# Altium integrated library Linear Technology Power Management LED Driver ICs.IntLib: 490 symbols (part 35 of 48)
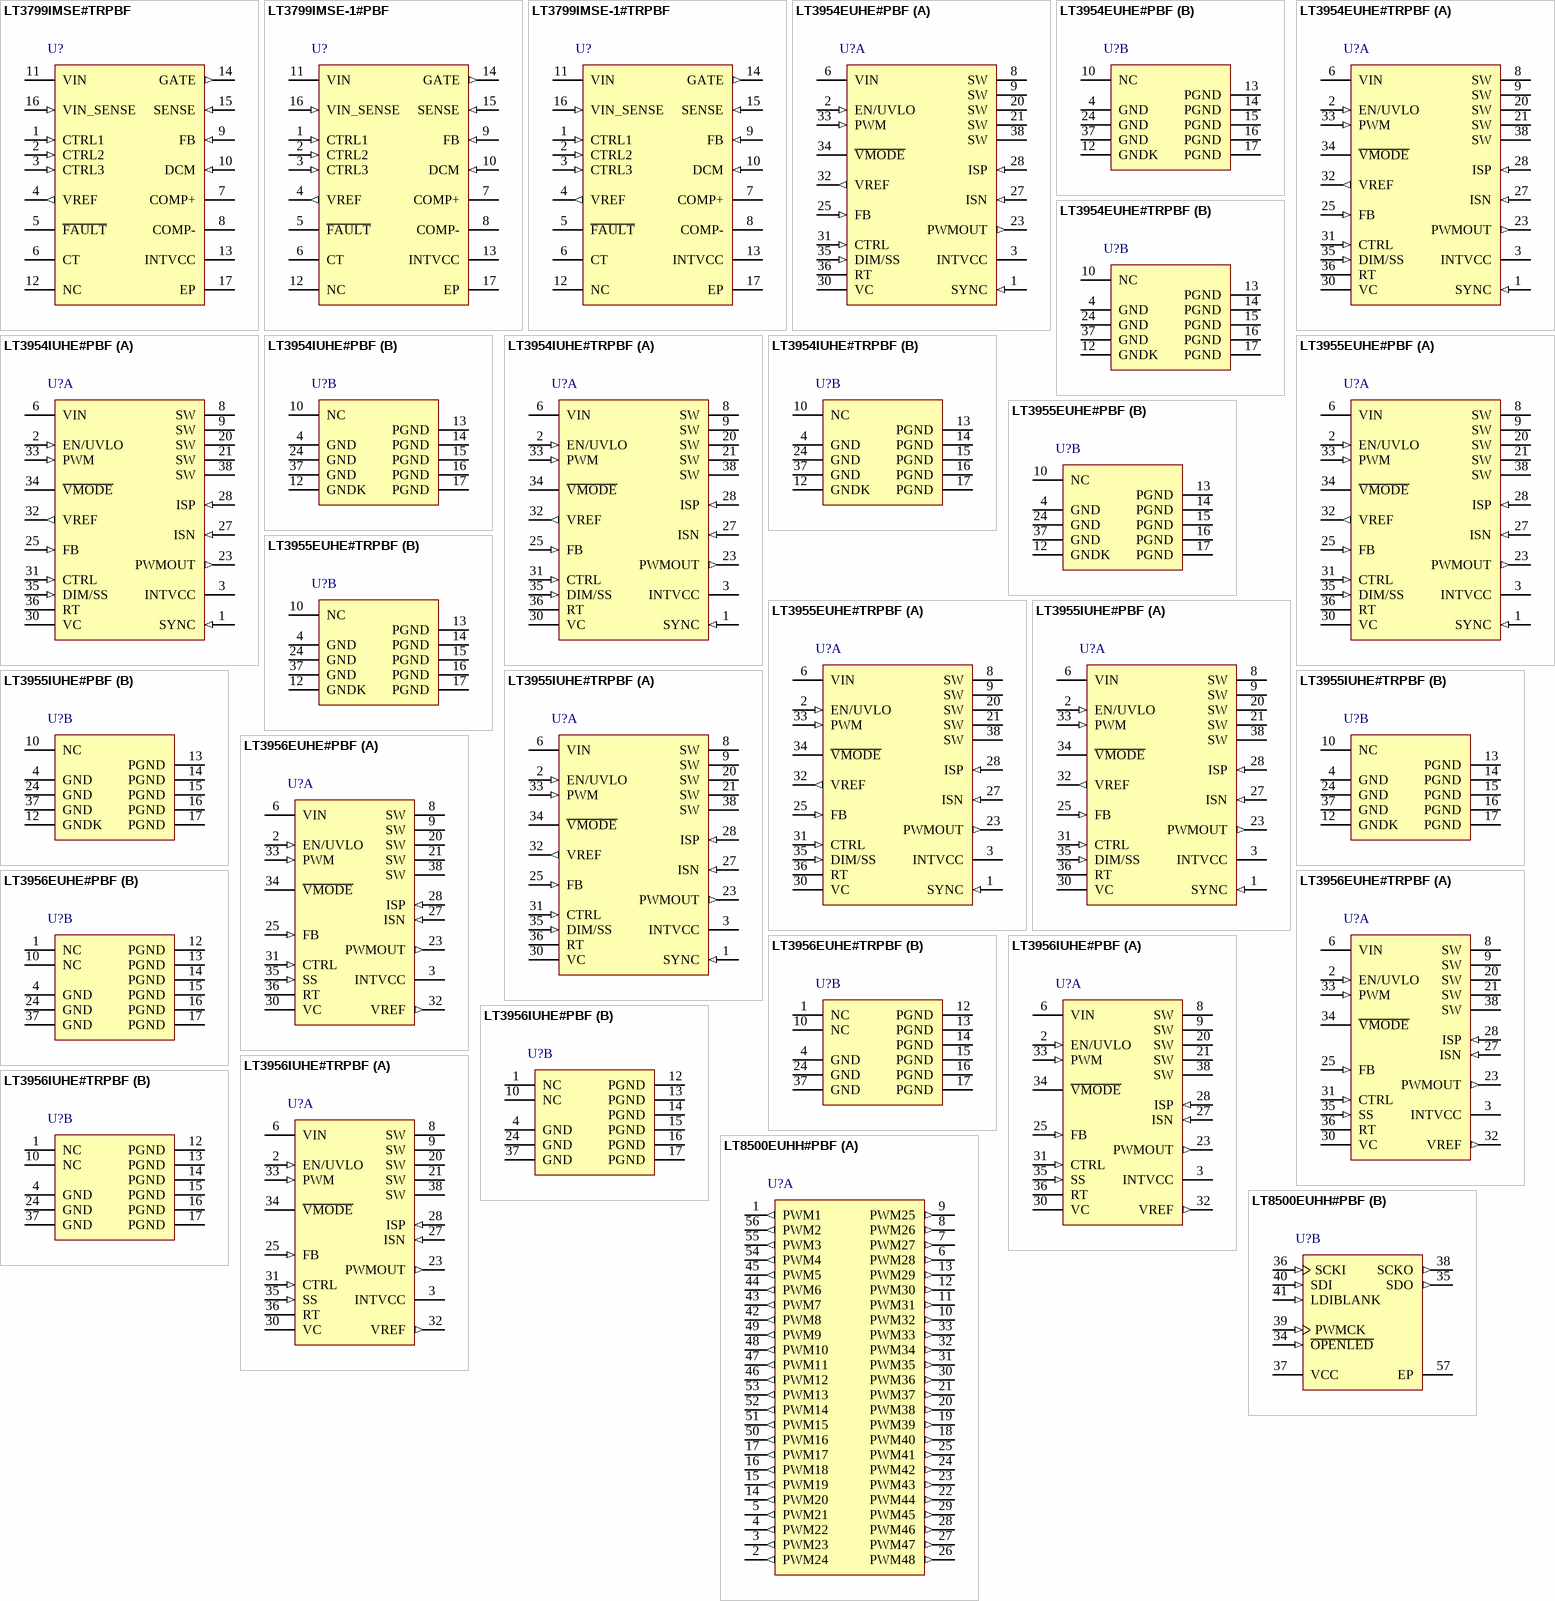
[diagram p54: symbols LT3799IMSE#TRPBF to LT8500EUHH#PBF]

## LT3956IUHE#TRPBF
designator U?
Constant-Current, Constant-Voltage Converter, 4.5 to 80 V Vin, 80 V Vout MAX, 28-pin QFN (UHE-36-V-UHE28MA), -40 to 125 degC, Pb-Free, Tape and Reel; Manufacturer: Linear Technology; PartNumber: LT3956IUHE#TRPBF; Topology: Buck, Boost, Buck-Boost, Sepic, Flyback, LED Driver; Vin Min(V): 4.5; PackageVersion: Rev. D, 02/2012; PackageReference: UHE-36; PackageDescription: 28-Pin Plastic QFN, Body 5 x 6 mm, Pitch 0.5 mm; Supplier 1: Digi-Key; Supplier Part Number 1: LT3956IUHE#TRPBF-ND; Packing: Tape and Reel; RoHS: TRUE; Mounting Technology: Surface Mount; ComponentLink1Description: Manufacturer URL; ComponentLink1URL: http://www.linear.com/; ComponentLink2Description: Datasheet; ComponentLink2URL: http://cds.linear.com/docs/en/datasheet/3956f.pdf; ComponentLink3Description: Package Specification; ComponentLink3URL: http://cds.linear.com/docs/en/packaging/QFN_28_05-08-1836.pdf
footprint LT-UHE-36-V-UHE28MA_V (QFN, 28-Leads, Body 6x5mm, Pitch 0.5mm)
part A pins: 2 EN/UVLO (in) "Shutdown and Undervoltage Detect Pin. An accurate 1.22V falling threshold with externally programmable hysteresis detects when power is OK to enable switching. Rising hysteresis is generated by the external resistor divider (See Datasheet)", 3 INTVCC (power) "Regulated supply for internal loads, GATE driver and PWMOUT driver. Supplied from VIN and regulates to 7.15V (typical). INTVCC must be bypassed with a 4.7uF capacitor placed close to the pin. Connect INTVCC directly to VIN (See Datasheet)", 6 VIN (power) "Input Supply Pin. Must be locally bypassed with a 0.22uF (or larger) capacitor to PGND placed close to the IC.", 8 SW (power) "The drain of the switching N-channel MOSFET and must be connected to the external inductor.", 9 SW (power) "The drain of the switching N-channel MOSFET and must be connected to the external inductor.", 20 SW (power) "The drain of the switching N-channel MOSFET and must be connected to the external inductor.", 21 SW (power) "The drain of the switching N-channel MOSFET and must be connected to the external inductor.", 23 PWMOUT (out) "Buffered Version of the PWM Signal. This pin is used to drive the LED load disconnect N-channel MOSFET or level shift. This pin also serves in a protection function for the FB overvoltage condition-will toggle if the FB (See Datasheet)", 25 FB (in) "Voltage Loop Feedback Pin. FB is intended for constant-voltage regulation or for LED protection/open LED detection. The internal transconductance amplifier with output VC will regulate FB to 1.25V (nominal) through the DC/DC (See Datasheet)", 27 ISN (in) "Connection point for the negative terminal of the current feedback resistor. If ISN is greater than 2.9V, the LED current can be programmed by ILED = 250mV/RLED when VCTRL > 1.2V or ILED = (VCTRL -100mV)/(4 ? RLED) i(See Datasheet)", 28 ISP (in) "Connection point for the positive terminal of the current feedback resistor. Input bias current for this pin depends on CTRL pin voltage, as shown in the Typical Performance Characteristics. ISP is an input to the (See Datasheet)", 30 VC "Transconductance Error Amplifier Output Pin. This pin is used to stabilize the voltage loop with an RC network. This pin is high impedance when PWM is low, a feature that stores the demand current state variable for the next (See Datasheet)", 31 CTRL (in) "Current Sense Threshold Adjustment Pin. Regula-ting threshold V(ISP - ISN) is 0.25 ? VCTRL plus an offset for 0V < VCTRL < 1V. For VCTRL > 1.2V the current sense threshold is constant at the full-scale value of 250mV. Fo(See Datasheet)", 32 VREF (out) "Voltage Reference Output Pin (typically 2V). This pin drives a resistor divider for the CTRL pin, either for analog dimming or for temperature limit/compensation of LED load. Can supply up to 100uA.", 33 PWM (in) "A signal low turns off switcher, idles oscillator and disconnects VC pin from all internal loads. PWMOUT pin follows PWM pin. PWM has an internal pull-down resistor. If not used, connect to INTVCC.", 34 ~{VMODE} (oc) "An open-collector pull-down on V\M\O\D\E\ asserts if the FB input is greater than the FB regulation threshold minus 50mV (typical). To function, the pin requires an external pull-up resistor. When the PWM input is low and (See Datasheet)", 35 SS (in) "Soft-Start Pin. This pin modulates oscillator frequency and compensation pin voltage (VC) clamp. The soft-start interval is set with an external capacitor. The pin has a 10uA (typical) pull-up current source to an internal 2.(See Datasheet)", 36 RT "Switching Frequency Adjustment Pin. Set the frequency using a resistor to GND (for resistor values, see the Typical Performance curve or Table 1). Do not leave the RT pin open.", 38 SW (power) "The exposed pad, Pin 38, is the drain of the switching N-channel MOSFET and must be connected to the external inductor."
part B pins: 1 NC "No Internal Connection. These pins may be left floating or connected to an adjacent pin.", 4 GND (power) "Ground. The exposed pad, Pin 37, is ground and must be soldered directly to the ground plane.", 10 NC "No Internal Connection. These pins may be left floating or connected to an adjacent pin.", 12 PGND (power) "Source terminal of switch and the GND input to the switch current comparator. Kelvin connect to the GND plane close to the IC using Pin 12.", 13 PGND (power) "Source terminal of switch and the GND input to the switch current comparator. Kelvin connect to the GND plane close to the IC using Pin 12. Pins 13 should be connected externally to the PGND terminals of components in the (See Datasheet)", 14 PGND (power) "Source terminal of switch and the GND input to the switch current comparator. Kelvin connect to the GND plane close to the IC using Pin 12. Pins 14 should be connected externally to the PGND terminals of components in the (See Datasheet)", 15 PGND (power) "Source terminal of switch and the GND input to the switch current comparator. Kelvin connect to the GND plane close to the IC using Pin 12. Pins 15 should be connected externally to the PGND terminals of components in the (See Datasheet)", 16 PGND (power) "Source terminal of switch and the GND input to the switch current comparator. Kelvin connect to the GND plane close to the IC using Pin 12. Pins 16 should be connected externally to the PGND terminals of components in the (See Datasheet)", 17 PGND (power) "Source terminal of switch and the GND input to the switch current comparator. Kelvin connect to the GND plane close to the IC using Pin 12. Pins 17 should be connected externally to the PGND terminals of components in the (See Datasheet)", 24 GND (power) "Ground.", 37 GND (power) "Ground. The exposed pad, Pin 37, is ground and must be soldered directly to the ground plane."

## LT8500EUHH#PBF
designator U?
48-Channel LED PWM Generator with 12-Bit Resolution and 50 MHz Cascadable Serial Interface, 3 to 5.5 V Vin, 56-pin QFN (UHH-56), -40 to 125 degC, Pb-Free; Manufacturer: Linear Technology; PartNumber: LT8500EUHH#PBF; Vin Min(V): 3; PackageVersion: Rev. A, 06/2010; PackageReference: UHH-56; PackageDescription: 56-Pin Plastic QFN, Body 5 x 9 mm, Pitch 0.4 mm; Supplier 1: Digi-Key; Supplier Part Number 1: LT8500EUHH#PBF-ND; Supplier 2: Newark; Supplier Part Number 2: 59T5973; RoHS: TRUE; Topology: PWM Generator; Mounting Technology: Surface Mount; ComponentLink1Description: Manufacturer URL; ComponentLink1URL: http://www.linear.com/; ComponentLink2Description: Datasheet; ComponentLink2URL: http://cds.linear.com/docs/en/datasheet/8500f.pdf; ComponentLink3Description: Package Specification; ComponentLink3URL: http://cds.linear.com/docs/en/packaging/QFN_56_05-08-1727.pdf
footprint LT-UHH-56_N (QFN, 56-Leads, Body 9.1x5.1mm, Pitch 0.4mm, Thermal Pad 7.13x3.45mm, IPC Medium Density)
footprint LT-UHH-56_L (QFN, 56-Leads, Body 9.1x5.1mm, Pitch 0.4mm, Thermal Pad 7.13x3.45mm, IPC High Density)
footprint LT-UHH-56_M (QFN, 56-Leads, Body 9.1x5.1mm, Pitch 0.4mm, Thermal Pad 7.13x3.45mm, IPC Low Density)
part A pins: 1 PWM1 (out) "Pulse Width Modulated (PWM) Output Pins. Pulse width is determined by comparing the value in the PWMRSYNC latches to an internal PWMCK counter. Outputs are high when the value in the PWMCK counter is less than the value in (See Datasheet)", 2 PWM24 (out) "Pulse Width Modulated (PWM) Output Pins. Pulse width is determined by comparing the value in the PWMRSYNC latches to an internal PWMCK counter. Outputs are high when the value in the PWMCK counter is less than the value in (See Datasheet)", 3 PWM23 (out) "Pulse Width Modulated (PWM) Output Pins. Pulse width is determined by comparing the value in the PWMRSYNC latches to an internal PWMCK counter. Outputs are high when the value in the PWMCK counter is less than the value in (See Datasheet)", 4 PWM22 (out) "Pulse Width Modulated (PWM) Output Pins. Pulse width is determined by comparing the value in the PWMRSYNC latches to an internal PWMCK counter. Outputs are high when the value in the PWMCK counter is less than the value in (See Datasheet)", 5 PWM21 (out) "Pulse Width Modulated (PWM) Output Pins. Pulse width is determined by comparing the value in the PWMRSYNC latches to an internal PWMCK counter. Outputs are high when the value in the PWMCK counter is less than the value in (See Datasheet)", 6 PWM28 (out) "Pulse Width Modulated (PWM) Output Pins. Pulse width is determined by comparing the value in the PWMRSYNC latches to an internal PWMCK counter. Outputs are high when the value in the PWMCK counter is less than the value in (See Datasheet)", 7 PWM27 (out) "Pulse Width Modulated (PWM) Output Pins. Pulse width is determined by comparing the value in the PWMRSYNC latches to an internal PWMCK counter. Outputs are high when the value in the PWMCK counter is less than the value in (See Datasheet)", 8 PWM26 (out) "Pulse Width Modulated (PWM) Output Pins. Pulse width is determined by comparing the value in the PWMRSYNC latches to an internal PWMCK counter. Outputs are high when the value in the PWMCK counter is less than the value in (See Datasheet)", 9 PWM25 (out) "Pulse Width Modulated (PWM) Output Pins. Pulse width is determined by comparing the value in the PWMRSYNC latches to an internal PWMCK counter. Outputs are high when the value in the PWMCK counter is less than the value in (See Datasheet)", 10 PWM32 (out) "Pulse Width Modulated (PWM) Output Pins. Pulse width is determined by comparing the value in the PWMRSYNC latches to an internal PWMCK counter. Outputs are high when the value in the PWMCK counter is less than the value in (See Datasheet)", 11 PWM31 (out) "Pulse Width Modulated (PWM) Output Pins. Pulse width is determined by comparing the value in the PWMRSYNC latches to an internal PWMCK counter. Outputs are high when the value in the PWMCK counter is less than the value in (See Datasheet)", 12 PWM30 (out) "Pulse Width Modulated (PWM) Output Pins. Pulse width is determined by comparing the value in the PWMRSYNC latches to an internal PWMCK counter. Outputs are high when the value in the PWMCK counter is less than the value in (See Datasheet)", 13 PWM29 (out) "Pulse Width Modulated (PWM) Output Pins. Pulse width is determined by comparing the value in the PWMRSYNC latches to an internal PWMCK counter. Outputs are high when the value in the PWMCK counter is less than the value in (See Datasheet)", 14 PWM20 (out) "Pulse Width Modulated (PWM) Output Pins. Pulse width is determined by comparing the value in the PWMRSYNC latches to an internal PWMCK counter. Outputs are high when the value in the PWMCK counter is less than the value in (See Datasheet)", 15 PWM19 (out) "Pulse Width Modulated (PWM) Output Pins. Pulse width is determined by comparing the value in the PWMRSYNC latches to an internal PWMCK counter. Outputs are high when the value in the PWMCK counter is less than the value in (See Datasheet)", 16 PWM18 (out) "Pulse Width Modulated (PWM) Output Pins. Pulse width is determined by comparing the value in the PWMRSYNC latches to an internal PWMCK counter. Outputs are high when the value in the PWMCK counter is less than the value in (See Datasheet)", 17 PWM17 (out) "Pulse Width Modulated (PWM) Output Pins. Pulse width is determined by comparing the value in the PWMRSYNC latches to an internal PWMCK counter. Outputs are high when the value in the PWMCK counter is less than the value in (See Datasheet)", 18 PWM40 (out) "Pulse Width Modulated (PWM) Output Pins. Pulse width is determined by comparing the value in the PWMRSYNC latches to an internal PWMCK counter. Outputs are high when the value in the PWMCK counter is less than the value in (See Datasheet)", 19 PWM39 (out) "Pulse Width Modulated (PWM) Output Pins. Pulse width is determined by comparing the value in the PWMRSYNC latches to an internal PWMCK counter. Outputs are high when the value in the PWMCK counter is less than the value in (See Datasheet)", 20 PWM38 (out) "Pulse Width Modulated (PWM) Output Pins. Pulse width is determined by comparing the value in the PWMRSYNC latches to an internal PWMCK counter. Outputs are high when the value in the PWMCK counter is less than the value in (See Datasheet)", 21 PWM37 (out) "Pulse Width Modulated (PWM) Output Pins. Pulse width is determined by comparing the value in the PWMRSYNC latches to an internal PWMCK counter. Outputs are high when the value in the PWMCK counter is less than the value in (See Datasheet)", 22 PWM44 (out) "Pulse Width Modulated (PWM) Output Pins. Pulse width is determined by comparing the value in the PWMRSYNC latches to an internal PWMCK counter. Outputs are high when the value in the PWMCK counter is less than the value in (See Datasheet)", 23 PWM43 (out) "Pulse Width Modulated (PWM) Output Pins. Pulse width is determined by comparing the value in the PWMRSYNC latches to an internal PWMCK counter. Outputs are high when the value in the PWMCK counter is less than the value in (See Datasheet)", 24 PWM42 (out) "Pulse Width Modulated (PWM) Output Pins. Pulse width is determined by comparing the value in the PWMRSYNC latches to an internal PWMCK counter. Outputs are high when the value in the PWMCK counter is less than the value in (See Datasheet)", 25 PWM41 (out) "Pulse Width Modulated (PWM) Output Pins. Pulse width is determined by comparing the value in the PWMRSYNC latches to an internal PWMCK counter. Outputs are high when the value in the PWMCK counter is less than the value in (See Datasheet)", 26 PWM48 (out) "Pulse Width Modulated (PWM) Output Pins. Pulse width is determined by comparing the value in the PWMRSYNC latches to an internal PWMCK counter. Outputs are high when the value in the PWMCK counter is less than the value in (See Datasheet)", 27 PWM47 (out) "Pulse Width Modulated (PWM) Output Pins. Pulse width is determined by comparing the value in the PWMRSYNC latches to an internal PWMCK counter. Outputs are high when the value in the PWMCK counter is less than the value in (See Datasheet)", 28 PWM46 (out) "Pulse Width Modulated (PWM) Output Pins. Pulse width is determined by comparing the value in the PWMRSYNC latches to an internal PWMCK counter. Outputs are high when the value in the PWMCK counter is less than the value in (See Datasheet)", 29 PWM45 (out) "Pulse Width Modulated (PWM) Output Pins. Pulse width is determined by comparing the value in the PWMRSYNC latches to an internal PWMCK counter. Outputs are high when the value in the PWMCK counter is less than the value in (See Datasheet)", 30 PWM36 (out) "Pulse Width Modulated (PWM) Output Pins. Pulse width is determined by comparing the value in the PWMRSYNC latches to an internal PWMCK counter. Outputs are high when the value in the PWMCK counter is less than the value in (See Datasheet)", 31 PWM35 (out) "Pulse Width Modulated (PWM) Output Pins. Pulse width is determined by comparing the value in the PWMRSYNC latches to an internal PWMCK counter. Outputs are high when the value in the PWMCK counter is less than the value in (See Datasheet)", 32 PWM34 (out) "Pulse Width Modulated (PWM) Output Pins. Pulse width is determined by comparing the value in the PWMRSYNC latches to an internal PWMCK counter. Outputs are high when the value in the PWMCK counter is less than the value in (See Datasheet)", 33 PWM33 (out) "Pulse Width Modulated (PWM) Output Pins. Pulse width is determined by comparing the value in the PWMRSYNC latches to an internal PWMCK counter. Outputs are high when the value in the PWMCK counter is less than the value in (See Datasheet)", 42 PWM8 (out) "Pulse Width Modulated (PWM) Output Pins. Pulse width is determined by comparing the value in the PWMRSYNC latches to an internal PWMCK counter. Outputs are high when the value in the PWMCK counter is less than the value in (See Datasheet)", 43 PWM7 (out) "Pulse Width Modulated (PWM) Output Pins. Pulse width is determined by comparing the value in the PWMRSYNC latches to an internal PWMCK counter. Outputs are high when the value in the PWMCK counter is less than the value in (See Datasheet)", 44 PWM6 (out) "Pulse Width Modulated (PWM) Output Pins. Pulse width is determined by comparing the value in the PWMRSYNC latches to an internal PWMCK counter. Outputs are high when the value in the PWMCK counter is less than the value in (See Datasheet)", 45 PWM5 (out) "Pulse Width Modulated (PWM) Output Pins. Pulse width is determined by comparing the value in the PWMRSYNC latches to an internal PWMCK counter. Outputs are high when the value in the PWMCK counter is less than the value in (See Datasheet)", 46 PWM12 (out) "Pulse Width Modulated (PWM) Output Pins. Pulse width is determined by comparing the value in the PWMRSYNC latches to an internal PWMCK counter. Outputs are high when the value in the PWMCK counter is less than the value in (See Datasheet)", 47 PWM11 (out) "Pulse Width Modulated (PWM) Output Pins. Pulse width is determined by comparing the value in the PWMRSYNC latches to an internal PWMCK counter. Outputs are high when the value in the PWMCK counter is less than the value in (See Datasheet)", 48 PWM10 (out) "Pulse Width Modulated (PWM) Output Pins. Pulse width is determined by comparing the value in the PWMRSYNC latches to an internal PWMCK counter. Outputs are high when the value in the PWMCK counter is less than the value in (See Datasheet)", 49 PWM9 (out) "Pulse Width Modulated (PWM) Output Pins. Pulse width is determined by comparing the value in the PWMRSYNC latches to an internal PWMCK counter. Outputs are high when the value in the PWMCK counter is less than the value in (See Datasheet)", 50 PWM16 (out) "Pulse Width Modulated (PWM) Output Pins. Pulse width is determined by comparing the value in the PWMRSYNC latches to an internal PWMCK counter. Outputs are high when the value in the PWMCK counter is less than the value in (See Datasheet)", 51 PWM15 (out) "Pulse Width Modulated (PWM) Output Pins. Pulse width is determined by comparing the value in the PWMRSYNC latches to an internal PWMCK counter. Outputs are high when the value in the PWMCK counter is less than the value in (See Datasheet)", 52 PWM14 (out) "Pulse Width Modulated (PWM) Output Pins. Pulse width is determined by comparing the value in the PWMRSYNC latches to an internal PWMCK counter. Outputs are high when the value in the PWMCK counter is less than the value in (See Datasheet)", 53 PWM13 (out) "Pulse Width Modulated (PWM) Output Pins. Pulse width is determined by comparing the value in the PWMRSYNC latches to an internal PWMCK counter. Outputs are high when the value in the PWMCK counter is less than the value in (See Datasheet)", 54 PWM4 (out) "Pulse Width Modulated (PWM) Output Pins. Pulse width is determined by comparing the value in the PWMRSYNC latches to an internal PWMCK counter. Outputs are high when the value in the PWMCK counter is less than the value in (See Datasheet)", 55 PWM3 (out) "Pulse Width Modulated (PWM) Output Pins. Pulse width is determined by comparing the value in the PWMRSYNC latches to an internal PWMCK counter. Outputs are high when the value in the PWMCK counter is less than the value in (See Datasheet)", 56 PWM2 (out) "Pulse Width Modulated (PWM) Output Pins. Pulse width is determined by comparing the value in the PWMRSYNC latches to an internal PWMCK counter. Outputs are high when the value in the PWMCK counter is less than the value in (See Datasheet)"
part B pins: 34 ~{OPENLED} (in) "Not Open LED Input Pin. This input passes diagnostic information to the host via the status frame. When used with LT3595A LED drivers, it connects to the wired-OR (open collector) O\P\E\N\L\E\D\ outputs which indicate an (See Datasheet)", 35 SDO (out) "Serial Data Output Pin. This pin is the output of the shift register (SR), and cascades data to downstream chips or returns data to the host.", 36 SCKI (in) "Serial Clock Input Pin. This clock pin provides timing for the serial interface and the calculation of PWM values in the correction multiplier. This clock is independent of PWMCK.", 37 VCC (power) "Supply Pin. 3.0V to 5.5V. Must be locally bypassed with a capacitor to ground.", 38 SCKO (out) "Serial Clock Output Pin. Buffered pass through of SCKI. This pin cascades the clock to the next chip or to the host.", 39 PWMCK (in) "PWM Clock Input Pin. This pin provides PWM timing for the outputs. Each PWM signal is generated by counting the pulses on this clock from zero to the calculated value in the PWM synchronization register (PWMRSYNC). This (See Datasheet)", 40 SDI (in) "Serial Data Input Pin. This pin provides serial interface data to issue commands and set up the individual PWM channels.", 41 LDIBLANK (in) "Latch Data In/Blank Input Pin. This is a dual function pin. LDI Function: The internal LDI signal is directly connected to the LDIBLANK pin. A logic high on the pin always asserts the LDI function. The rising edge of (See Datasheet)", 57 EP (power) "This is the ground reference for the chip."

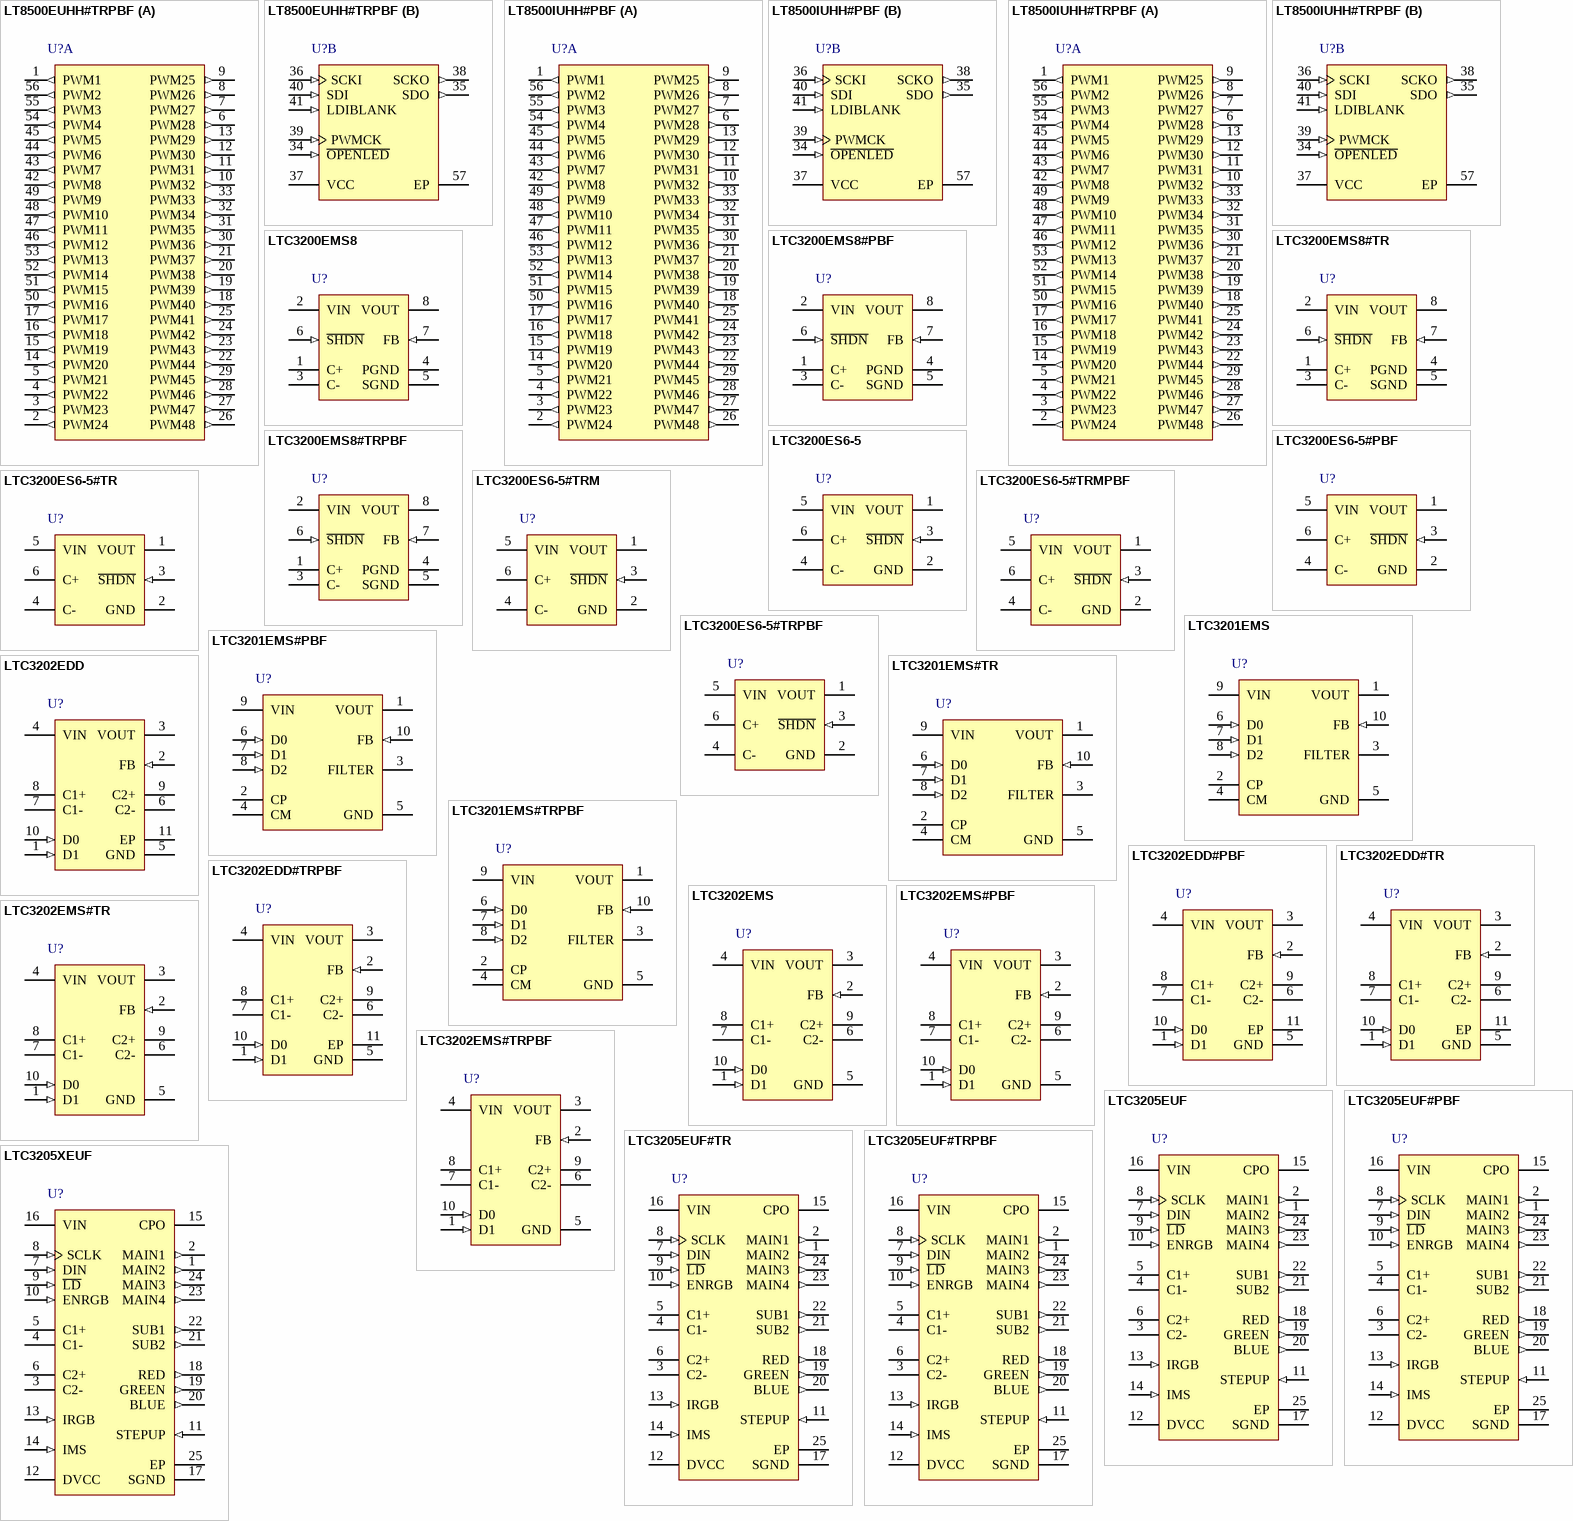
[diagram p15: symbols LT8500EUHH#TRPBF to LTC3205XEUF]

## LT8500EUHH#TRPBF
designator U?
48-Channel LED PWM Generator with 12-Bit Resolution and 50 MHz Cascadable Serial Interface, 3 to 5.5 V Vin, 56-pin QFN (UHH-56), -40 to 125 degC, Pb-Free, Tape and Reel; Manufacturer: Linear Technology; PartNumber: LT8500EUHH#TRPBF; Vin Min(V): 3; PackageVersion: Rev. A, 06/2010; PackageReference: UHH-56; PackageDescription: 56-Pin Plastic QFN, Body 5 x 9 mm, Pitch 0.4 mm; Supplier 1: Digi-Key; Supplier Part Number 1: LT8500EUHH#TRPBF-ND; Supplier 2: Newark; Supplier Part Number 2: 59T5974; Packing: Tape and Reel; RoHS: TRUE; Topology: PWM Generator; Mounting Technology: Surface Mount; ComponentLink1Description: Manufacturer URL; ComponentLink1URL: http://www.linear.com/; ComponentLink2Description: Datasheet; ComponentLink2URL: http://cds.linear.com/docs/en/datasheet/8500f.pdf; ComponentLink3Description: Package Specification; ComponentLink3URL: http://cds.linear.com/docs/en/packaging/QFN_56_05-08-1727.pdf
footprint LT-UHH-56_N (QFN, 56-Leads, Body 9.1x5.1mm, Pitch 0.4mm, Thermal Pad 7.13x3.45mm, IPC Medium Density)
footprint LT-UHH-56_L (QFN, 56-Leads, Body 9.1x5.1mm, Pitch 0.4mm, Thermal Pad 7.13x3.45mm, IPC High Density)
footprint LT-UHH-56_M (QFN, 56-Leads, Body 9.1x5.1mm, Pitch 0.4mm, Thermal Pad 7.13x3.45mm, IPC Low Density)
part A pins: 1 PWM1 (out) "Pulse Width Modulated (PWM) Output Pins. Pulse width is determined by comparing the value in the PWMRSYNC latches to an internal PWMCK counter. Outputs are high when the value in the PWMCK counter is less than the value in (See Datasheet)", 2 PWM24 (out) "Pulse Width Modulated (PWM) Output Pins. Pulse width is determined by comparing the value in the PWMRSYNC latches to an internal PWMCK counter. Outputs are high when the value in the PWMCK counter is less than the value in (See Datasheet)", 3 PWM23 (out) "Pulse Width Modulated (PWM) Output Pins. Pulse width is determined by comparing the value in the PWMRSYNC latches to an internal PWMCK counter. Outputs are high when the value in the PWMCK counter is less than the value in (See Datasheet)", 4 PWM22 (out) "Pulse Width Modulated (PWM) Output Pins. Pulse width is determined by comparing the value in the PWMRSYNC latches to an internal PWMCK counter. Outputs are high when the value in the PWMCK counter is less than the value in (See Datasheet)", 5 PWM21 (out) "Pulse Width Modulated (PWM) Output Pins. Pulse width is determined by comparing the value in the PWMRSYNC latches to an internal PWMCK counter. Outputs are high when the value in the PWMCK counter is less than the value in (See Datasheet)", 6 PWM28 (out) "Pulse Width Modulated (PWM) Output Pins. Pulse width is determined by comparing the value in the PWMRSYNC latches to an internal PWMCK counter. Outputs are high when the value in the PWMCK counter is less than the value in (See Datasheet)", 7 PWM27 (out) "Pulse Width Modulated (PWM) Output Pins. Pulse width is determined by comparing the value in the PWMRSYNC latches to an internal PWMCK counter. Outputs are high when the value in the PWMCK counter is less than the value in (See Datasheet)", 8 PWM26 (out) "Pulse Width Modulated (PWM) Output Pins. Pulse width is determined by comparing the value in the PWMRSYNC latches to an internal PWMCK counter. Outputs are high when the value in the PWMCK counter is less than the value in (See Datasheet)", 9 PWM25 (out) "Pulse Width Modulated (PWM) Output Pins. Pulse width is determined by comparing the value in the PWMRSYNC latches to an internal PWMCK counter. Outputs are high when the value in the PWMCK counter is less than the value in (See Datasheet)", 10 PWM32 (out) "Pulse Width Modulated (PWM) Output Pins. Pulse width is determined by comparing the value in the PWMRSYNC latches to an internal PWMCK counter. Outputs are high when the value in the PWMCK counter is less than the value in (See Datasheet)", 11 PWM31 (out) "Pulse Width Modulated (PWM) Output Pins. Pulse width is determined by comparing the value in the PWMRSYNC latches to an internal PWMCK counter. Outputs are high when the value in the PWMCK counter is less than the value in (See Datasheet)", 12 PWM30 (out) "Pulse Width Modulated (PWM) Output Pins. Pulse width is determined by comparing the value in the PWMRSYNC latches to an internal PWMCK counter. Outputs are high when the value in the PWMCK counter is less than the value in (See Datasheet)", 13 PWM29 (out) "Pulse Width Modulated (PWM) Output Pins. Pulse width is determined by comparing the value in the PWMRSYNC latches to an internal PWMCK counter. Outputs are high when the value in the PWMCK counter is less than the value in (See Datasheet)", 14 PWM20 (out) "Pulse Width Modulated (PWM) Output Pins. Pulse width is determined by comparing the value in the PWMRSYNC latches to an internal PWMCK counter. Outputs are high when the value in the PWMCK counter is less than the value in (See Datasheet)", 15 PWM19 (out) "Pulse Width Modulated (PWM) Output Pins. Pulse width is determined by comparing the value in the PWMRSYNC latches to an internal PWMCK counter. Outputs are high when the value in the PWMCK counter is less than the value in (See Datasheet)", 16 PWM18 (out) "Pulse Width Modulated (PWM) Output Pins. Pulse width is determined by comparing the value in the PWMRSYNC latches to an internal PWMCK counter. Outputs are high when the value in the PWMCK counter is less than the value in (See Datasheet)", 17 PWM17 (out) "Pulse Width Modulated (PWM) Output Pins. Pulse width is determined by comparing the value in the PWMRSYNC latches to an internal PWMCK counter. Outputs are high when the value in the PWMCK counter is less than the value in (See Datasheet)", 18 PWM40 (out) "Pulse Width Modulated (PWM) Output Pins. Pulse width is determined by comparing the value in the PWMRSYNC latches to an internal PWMCK counter. Outputs are high when the value in the PWMCK counter is less than the value in (See Datasheet)", 19 PWM39 (out) "Pulse Width Modulated (PWM) Output Pins. Pulse width is determined by comparing the value in the PWMRSYNC latches to an internal PWMCK counter. Outputs are high when the value in the PWMCK counter is less than the value in (See Datasheet)", 20 PWM38 (out) "Pulse Width Modulated (PWM) Output Pins. Pulse width is determined by comparing the value in the PWMRSYNC latches to an internal PWMCK counter. Outputs are high when the value in the PWMCK counter is less than the value in (See Datasheet)", 21 PWM37 (out) "Pulse Width Modulated (PWM) Output Pins. Pulse width is determined by comparing the value in the PWMRSYNC latches to an internal PWMCK counter. Outputs are high when the value in the PWMCK counter is less than the value in (See Datasheet)", 22 PWM44 (out) "Pulse Width Modulated (PWM) Output Pins. Pulse width is determined by comparing the value in the PWMRSYNC latches to an internal PWMCK counter. Outputs are high when the value in the PWMCK counter is less than the value in (See Datasheet)", 23 PWM43 (out) "Pulse Width Modulated (PWM) Output Pins. Pulse width is determined by comparing the value in the PWMRSYNC latches to an internal PWMCK counter. Outputs are high when the value in the PWMCK counter is less than the value in (See Datasheet)", 24 PWM42 (out) "Pulse Width Modulated (PWM) Output Pins. Pulse width is determined by comparing the value in the PWMRSYNC latches to an internal PWMCK counter. Outputs are high when the value in the PWMCK counter is less than the value in (See Datasheet)", 25 PWM41 (out) "Pulse Width Modulated (PWM) Output Pins. Pulse width is determined by comparing the value in the PWMRSYNC latches to an internal PWMCK counter. Outputs are high when the value in the PWMCK counter is less than the value in (See Datasheet)", 26 PWM48 (out) "Pulse Width Modulated (PWM) Output Pins. Pulse width is determined by comparing the value in the PWMRSYNC latches to an internal PWMCK counter. Outputs are high when the value in the PWMCK counter is less than the value in (See Datasheet)", 27 PWM47 (out) "Pulse Width Modulated (PWM) Output Pins. Pulse width is determined by comparing the value in the PWMRSYNC latches to an internal PWMCK counter. Outputs are high when the value in the PWMCK counter is less than the value in (See Datasheet)", 28 PWM46 (out) "Pulse Width Modulated (PWM) Output Pins. Pulse width is determined by comparing the value in the PWMRSYNC latches to an internal PWMCK counter. Outputs are high when the value in the PWMCK counter is less than the value in (See Datasheet)", 29 PWM45 (out) "Pulse Width Modulated (PWM) Output Pins. Pulse width is determined by comparing the value in the PWMRSYNC latches to an internal PWMCK counter. Outputs are high when the value in the PWMCK counter is less than the value in (See Datasheet)", 30 PWM36 (out) "Pulse Width Modulated (PWM) Output Pins. Pulse width is determined by comparing the value in the PWMRSYNC latches to an internal PWMCK counter. Outputs are high when the value in the PWMCK counter is less than the value in (See Datasheet)", 31 PWM35 (out) "Pulse Width Modulated (PWM) Output Pins. Pulse width is determined by comparing the value in the PWMRSYNC latches to an internal PWMCK counter. Outputs are high when the value in the PWMCK counter is less than the value in (See Datasheet)", 32 PWM34 (out) "Pulse Width Modulated (PWM) Output Pins. Pulse width is determined by comparing the value in the PWMRSYNC latches to an internal PWMCK counter. Outputs are high when the value in the PWMCK counter is less than the value in (See Datasheet)", 33 PWM33 (out) "Pulse Width Modulated (PWM) Output Pins. Pulse width is determined by comparing the value in the PWMRSYNC latches to an internal PWMCK counter. Outputs are high when the value in the PWMCK counter is less than the value in (See Datasheet)", 42 PWM8 (out) "Pulse Width Modulated (PWM) Output Pins. Pulse width is determined by comparing the value in the PWMRSYNC latches to an internal PWMCK counter. Outputs are high when the value in the PWMCK counter is less than the value in (See Datasheet)", 43 PWM7 (out) "Pulse Width Modulated (PWM) Output Pins. Pulse width is determined by comparing the value in the PWMRSYNC latches to an internal PWMCK counter. Outputs are high when the value in the PWMCK counter is less than the value in (See Datasheet)", 44 PWM6 (out) "Pulse Width Modulated (PWM) Output Pins. Pulse width is determined by comparing the value in the PWMRSYNC latches to an internal PWMCK counter. Outputs are high when the value in the PWMCK counter is less than the value in (See Datasheet)", 45 PWM5 (out) "Pulse Width Modulated (PWM) Output Pins. Pulse width is determined by comparing the value in the PWMRSYNC latches to an internal PWMCK counter. Outputs are high when the value in the PWMCK counter is less than the value in (See Datasheet)", 46 PWM12 (out) "Pulse Width Modulated (PWM) Output Pins. Pulse width is determined by comparing the value in the PWMRSYNC latches to an internal PWMCK counter. Outputs are high when the value in the PWMCK counter is less than the value in (See Datasheet)", 47 PWM11 (out) "Pulse Width Modulated (PWM) Output Pins. Pulse width is determined by comparing the value in the PWMRSYNC latches to an internal PWMCK counter. Outputs are high when the value in the PWMCK counter is less than the value in (See Datasheet)", 48 PWM10 (out) "Pulse Width Modulated (PWM) Output Pins. Pulse width is determined by comparing the value in the PWMRSYNC latches to an internal PWMCK counter. Outputs are high when the value in the PWMCK counter is less than the value in (See Datasheet)", 49 PWM9 (out) "Pulse Width Modulated (PWM) Output Pins. Pulse width is determined by comparing the value in the PWMRSYNC latches to an internal PWMCK counter. Outputs are high when the value in the PWMCK counter is less than the value in (See Datasheet)", 50 PWM16 (out) "Pulse Width Modulated (PWM) Output Pins. Pulse width is determined by comparing the value in the PWMRSYNC latches to an internal PWMCK counter. Outputs are high when the value in the PWMCK counter is less than the value in (See Datasheet)", 51 PWM15 (out) "Pulse Width Modulated (PWM) Output Pins. Pulse width is determined by comparing the value in the PWMRSYNC latches to an internal PWMCK counter. Outputs are high when the value in the PWMCK counter is less than the value in (See Datasheet)", 52 PWM14 (out) "Pulse Width Modulated (PWM) Output Pins. Pulse width is determined by comparing the value in the PWMRSYNC latches to an internal PWMCK counter. Outputs are high when the value in the PWMCK counter is less than the value in (See Datasheet)", 53 PWM13 (out) "Pulse Width Modulated (PWM) Output Pins. Pulse width is determined by comparing the value in the PWMRSYNC latches to an internal PWMCK counter. Outputs are high when the value in the PWMCK counter is less than the value in (See Datasheet)", 54 PWM4 (out) "Pulse Width Modulated (PWM) Output Pins. Pulse width is determined by comparing the value in the PWMRSYNC latches to an internal PWMCK counter. Outputs are high when the value in the PWMCK counter is less than the value in (See Datasheet)", 55 PWM3 (out) "Pulse Width Modulated (PWM) Output Pins. Pulse width is determined by comparing the value in the PWMRSYNC latches to an internal PWMCK counter. Outputs are high when the value in the PWMCK counter is less than the value in (See Datasheet)", 56 PWM2 (out) "Pulse Width Modulated (PWM) Output Pins. Pulse width is determined by comparing the value in the PWMRSYNC latches to an internal PWMCK counter. Outputs are high when the value in the PWMCK counter is less than the value in (See Datasheet)"
part B pins: 34 ~{OPENLED} (in) "Not Open LED Input Pin. This input passes diagnostic information to the host via the status frame. When used with LT3595A LED drivers, it connects to the wired-OR (open collector) O\P\E\N\L\E\D\ outputs which indicate an (See Datasheet)", 35 SDO (out) "Serial Data Output Pin. This pin is the output of the shift register (SR), and cascades data to downstream chips or returns data to the host.", 36 SCKI (in) "Serial Clock Input Pin. This clock pin provides timing for the serial interface and the calculation of PWM values in the correction multiplier. This clock is independent of PWMCK.", 37 VCC (power) "Supply Pin. 3.0V to 5.5V. Must be locally bypassed with a capacitor to ground.", 38 SCKO (out) "Serial Clock Output Pin. Buffered pass through of SCKI. This pin cascades the clock to the next chip or to the host.", 39 PWMCK (in) "PWM Clock Input Pin. This pin provides PWM timing for the outputs. Each PWM signal is generated by counting the pulses on this clock from zero to the calculated value in the PWM synchronization register (PWMRSYNC). This (See Datasheet)", 40 SDI (in) "Serial Data Input Pin. This pin provides serial interface data to issue commands and set up the individual PWM channels.", 41 LDIBLANK (in) "Latch Data In/Blank Input Pin. This is a dual function pin. LDI Function: The internal LDI signal is directly connected to the LDIBLANK pin. A logic high on the pin always asserts the LDI function. The rising edge of (See Datasheet)", 57 EP (power) "This is the ground reference for the chip."